# EAGLE library part ESP32DEVKITV1 (library ESP32)
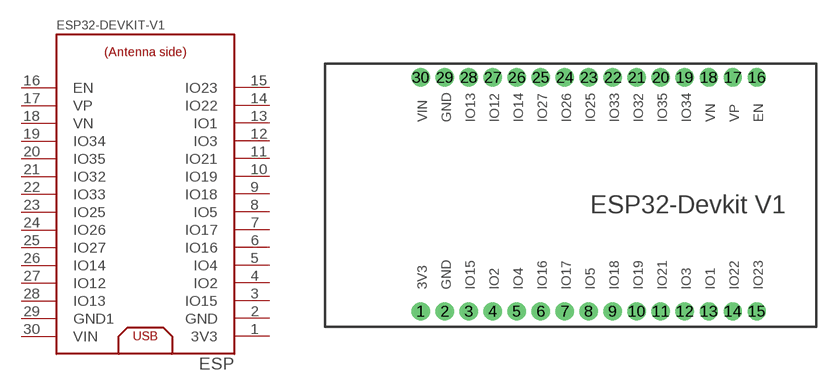
[diagram p0: symbol with the pads of ESP32-DEVKITV1; footprint ESP32-DEVKITV1]

Designator prefix ESP

## ESP32DEVKITV1  [ESP32-DEVKITV1]
1  3V3
2  GND
3  IO15
4  IO2
5  IO4
6  IO16
7  IO17
8  IO5
9  IO18
10  IO19
11  IO21
12  IO3
13  IO1
14  IO22
15  IO23
16  EN
17  VP
18  VN
19  IO34
20  IO35
21  IO32
22  IO33
23  IO25
24  IO26
25  IO27
26  IO14
27  IO12
28  IO13
29  GND1
30  VIN

## Footprint ESP32-DEVKITV1 (pad centres in mm)
drill 1 pad 1.93: 1 -22.87,-13.54; 2 -20.33,-13.54; 3 -17.79,-13.54; 4 -15.25,-13.54; 5 -12.71,-13.54; 6 -10.17,-13.54; 7 -7.63,-13.54; 8 -5.09,-13.54; 9 -2.55,-13.54; 10 -0.01,-13.54; 11 2.53,-13.54; 12 5.07,-13.54; 13 7.61,-13.54; 14 10.15,-13.54; 15 12.69,-13.54; 16 12.69,11.23; 17 10.15,11.23; 18 7.61,11.23; 19 5.07,11.23; 20 2.53,11.23; 21 -0.01,11.23; 22 -2.55,11.23; 23 -5.09,11.23; 24 -7.63,11.23; 25 -10.17,11.23; 26 -12.71,11.23; 27 -15.25,11.23; 28 -17.79,11.23; 29 -20.33,11.23; 30 -22.87,11.23